# EAGLE library part 826629-8 (library 826629-8)
Body Features: Primary Product Color Green | Configuration Features: Number of Positions 8 | Board-to-Board Configuration Parallel | PCB Mount Orientation Vertical | Number of Rows 1 | Connector Contact Load Condition Fully Loaded | Contact Features: Mating Square Post Dimension .025 INCH | Contact Type Pin | Contact Underplating Material Nickel | Contact Mating Area Plating Material Gold or Gold Flash over Palladium Nickel | Mating Square Post Dimension .63 MM | Contact Shape & Form Square | Contact Mating Source: Datasheet <http://www.te.com/commerce/DocumentDelivery/DDEController?Action=showdoc&DocId=Customer Drawing826629AApdfEnglishENG_CD_826629_AA_baseFilename.pdf826629-8.pdf>
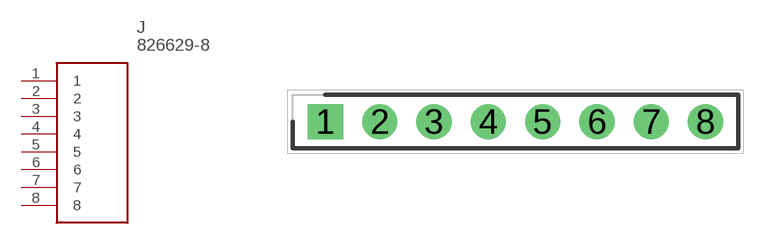
[diagram p0: symbol with the pads of HDRV8W63P0X254_1X8_2032X250X95; footprint HDRV8W63P0X254_1X8_2032X250X95]

Designator prefix J

## 826629-8 (Description: Body Features: Primary Product Color Green | Configuration Features: Number of Positions 8 | Board-to-Board Configuration Parallel | PCB Mount Orientation Vertical | Number of Rows 1 | Connector Contact Load Condition Fully Loaded | Contact Features: Mating Square Post Dimension .025 INCH | Contact Type Pin | Contact Underplating Material Nickel | Contact Mating Area Plating Material Gold or Gold Flash over Palladium Nickel | Mating Square Post Dimension .63 MM | Contact Shape & Form Square | Contact Mating; Height: 9.5mm; Manufacturer_Name: TE Connectivity; Manufacturer_Part_Number: 826629-8; Mouser_Part_Number: 571-826629-8; Mouser_Price-Stock: https://www.mouser.co.uk/ProductDetail/TE-Connectivity/826629-8?qs=FazuUmncXokWopYWOwxkcA%3D%3D)  [HDRV8W63P0X254_1X8_2032X250X95]
1  1
2  2
3  3
4  4
5  5
6  6
7  7
8  8

## Footprint HDRV8W63P0X254_1X8_2032X250X95 (pad centres in mm)
826629-8-ren1
drill 1.1 pad 1.65 square: 1 0,0
drill 1.1 pad 1.65: 2 2.54,0; 3 5.08,0; 4 7.62,0; 5 10.16,0; 6 12.7,0; 7 15.24,0; 8 17.78,0